# Altium footprint library SM08BSRSSTBLFSN.PcbLib: 1 footprints
Each footprint in its own frame and in the unit in brackets; x right, y up, seen from the top. Pads: shape width x height; smd on the part's side, far side on the other; paste and mask are expansions set on the pad; w line width, h text height; cw(c..) or ccw(c..) is an arc to the next point about the centre after c.
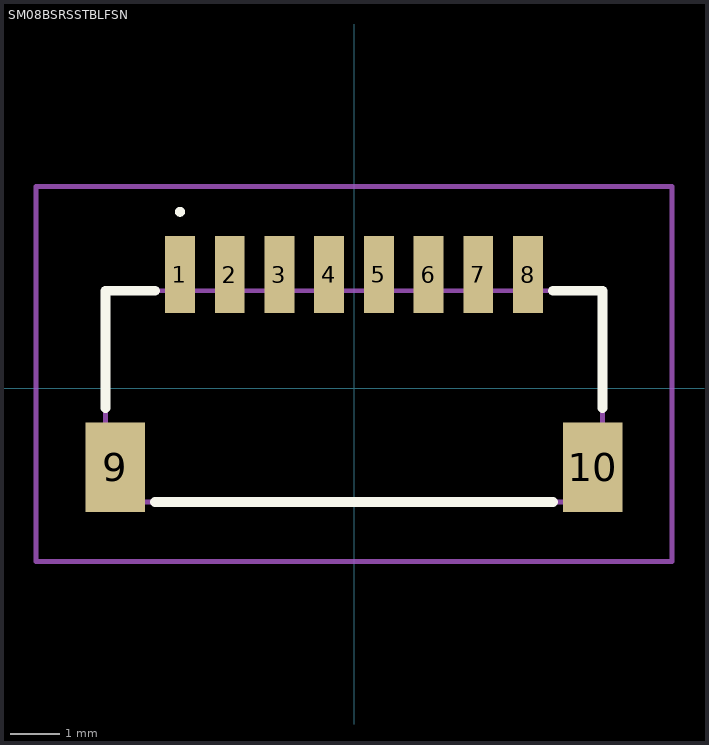
[diagram p0: the footprint, top view; thin cyan lines are the x and y axes]

## SM08BSRSSTBLFSN [mm]
pads (10):
  rect 0.6x1.55 smd: 1(-3.5,2.288) 2(-2.5,2.288) 3(-1.5,2.288) 4(-0.5,2.288) 5(0.5,2.288) 6(1.5,2.288) 7(2.5,2.288) 8(3.5,2.288)
  rect 1.2x1.8 smd: 9(-4.8,-1.588) 10(4.8,-1.588)
Top Overlay:
  lines w0.1: -3.5,3.5 -3.5,3.5 ; -3.5,3.5 ccw(c-3.5,3.55) -3.5,3.6 ; -3.5,3.5 cw(c-3.5,3.55) -3.5,3.6 ; -3.5,3.6 -3.5,3.6
  lines w0.2: -5,-0.4 -5,1.962 -4,1.962 ; -4,-2.288 4,-2.288 ; 4,1.962 5,1.962 5,-0.4
Mechanical 15:
  lines w0.1: -5,-2.288 5,-2.288 5,1.962 -5,1.962 -5,-2.288
Mechanical 20:
  lines w0.1: -6.4,-3.488 6.4,-3.488 6.4,4.063 -6.4,4.063 -6.4,-3.488